# EAGLE library part TY-5050- (library LED´s)
Name des Bauteiles: -->TY-5050RGB1 (RGB-LED) Daten:􀂗 Features: 􀂾 5.0mm×5.0mm SMT LED，1.60mm thickness 􀂾 PLCC-6 package 􀂾 White package 􀂾 Suitable for all SMT assembly and solder process 􀂾 Available on tape and reel 􀂗 Description The Red source color devices are made with AlGaInP on sapphire Light Emitting Diode. The Green source color devices are made with InGaN on Green Light Emitting Diode. The Blue source color devices are made with InGaN on sapphire Light Emitting Diode. Artikelnummer:#keine feste Artikelnummer vorhanden / Atikel nicht lagermäßig vorhanden! Datenblatt:http://www.toyo-led.com/?top_smd_led=5050_smd_leds#tabletitle __________________________________________ generated by Eagle Description Tool am : 24.04.2014 14:34:07 erstellt von: hm + wl
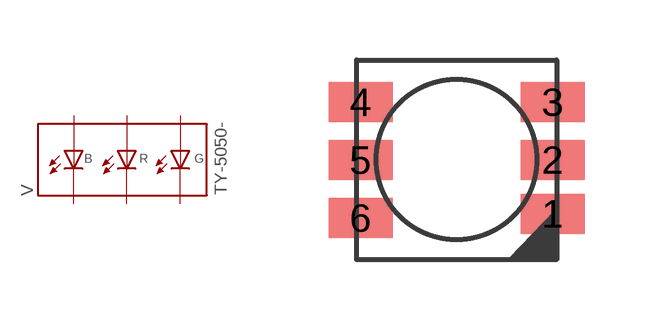
[diagram p1: symbol with the pads of PLCC6; footprint PLCC6]

Designator prefix V

## TY-5050-RGB1  [PLCC6]
1  A1  pas
2  A2  pas
3  A3  pas
4  K3  pas
5  K2  pas
6  K1  pas

## Footprint PLCC6 (pad centres in mm)
smd 1.6 x 1: 1 2.4,-1.35; 2 2.4,0; 3 2.4,1.45; 4 -2.4,1.45; 5 -2.4,0; 6 -2.4,-1.45